# EAGLE library part MLX90393 (library added_parts)
Melexis MLX90393 Triaxis Magnetic Node
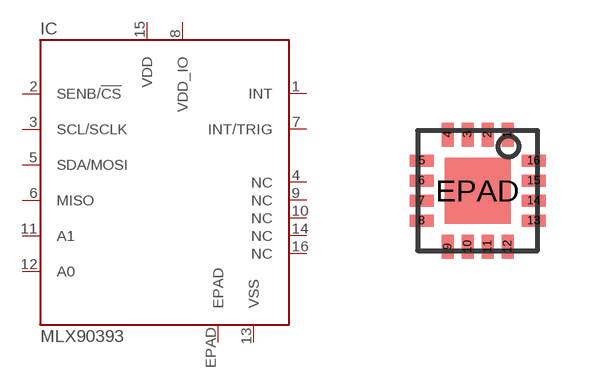
[diagram p33: symbol with the pads of QFN-16; footprint QFN-16]

Designator prefix IC

## MLX90393  [QFN-16]
1  INT  out
2  SENB/!CS  in
3  SCL/SCLK  in
4  NC  nc
5  SDA/MOSI
6  MISO  out
7  INT/TRIG
8  VDD_IO  pwr
9  NC  nc
10  NC  nc
11  A1
12  A0
13  VSS  pwr
14  NC  nc
15  VDD  pwr
16  NC  nc
EPAD  EPAD  nc

## Footprint QFN-16 (pad centres in mm)
smd 0.3 x 0.6: 1 0.75,1.4; 2 0.25,1.4; 3 -0.25,1.4; 4 -0.75,1.4; 9 -0.75,-1.4; 10 -0.25,-1.4; 11 0.25,-1.4; 12 0.75,-1.4
smd 0.6 x 0.3: 5 -1.4,0.75; 6 -1.4,0.25; 7 -1.4,-0.25; 8 -1.4,-0.75; 13 1.4,-0.75; 14 1.4,-0.25; 15 1.4,0.25; 16 1.4,0.75
smd 1.65 x 1.65: EPAD 0,0